# Altium schematic symbol library common components.SchLib: 8 symbols
Pins are listed as number, name and electrical type; pins without a type are passive.

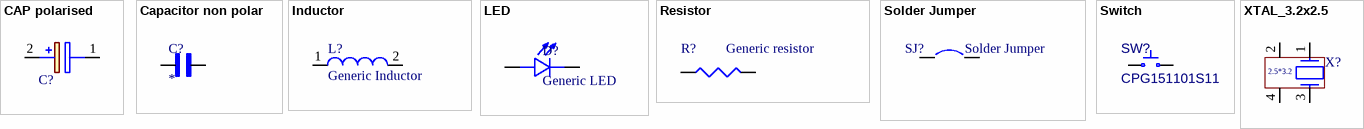
[diagram p0: symbols CAP polarised to XTAL_3.2x2.5]

## CAP polarised
designator C?, comment (SMD A–E)  (value not drawn)
This Polarized Tantalum Capacitor Library (SMD A–E Sizes) provides accurate schematic symbols and IPC-compliant PCB footprints for standard SMD tantalum capacitor case sizes A, B, C, D, and E.; Manufacturer_Name: AVX; Manufacturer_Part_Number: TCJ5477M016R0100E; Datasheet Link: https://datasheets.kyocera-avx.com/TCJ.pdf; Height: 4mm; Mouser Part Number: 581-TCJ5477M016R100E; Mouser Price/Stock: https://www.mouser.co.uk/ProductDetail/AVX/TCJ5477M016R0100E?qs=hWgE7mdIu5QV3CO1kSXQRw%3D%3D
footprint TANTALUM SMD C (SMD TIPO C 6.0x3.2x2.2)
footprint TANTALUM SMD D (SMD TIPO D 7.3x4.3x2.4)
footprint TANTALUM SMD E (SMD TIPO E  7.3x4.3x4.1)
footprint TAN-A
footprint TAN-B
pins: 1 -, 2 +

## Capacitor non polar
designator C?
This Non-Polarized Capacitor Design Library provides accurate schematic symbols and IPC-compliant PCB footprints for standard non-polarized capacitors, including MLCCs (ceramic capacitors) in common SMD sizes like 0402, 0603, 0805,1206 and 1210.; MF: Murata; MP: GJM1555C1HR10BB01J; SnapEDA_Link: https://www.snapeda.com/parts/GJM1555C1HR10BB01J/Murata/view-part/?ref=snap; Package: 1005 Taiyo Yuden; Value: *; Check_prices: https://www.snapeda.com/parts/GJM1555C1HR10BB01J/Murata/view-part/?ref=eda
footprint C0603
footprint C0805
footprint C0201 (Chip Capacitor, 2-Leads, Body 0.60x0.30mm, IPC High Density)
footprint C1206
footprint C1210
footprint C0402
pins: 1, 2

## Inductor
designator L?, comment Generic Inductor
SMD Inductor Generic; PartNumber: 744043152; Inductance: 1500 µH; DatasheetVersion: ver 6, Aug-2010; PackageReference: WE-TPC-4828-MH; PackageDescription: SMD Inductor, 2-Leads, Body 4.8 x 4.8 mm; ComponentLink1Description: Manufacturer URL; ComponentLink1URL: http://www.we-online.com; ComponentLink2Description: Datasheet; ComponentLink2URL: http://www.we-online.de/katalog/media/pdf/744043152.pdf
footprint 4030 inductor (Size: 4.0 mm × 4.0 mm × 3.0 mm (L × W × H))
footprint 5020 inductor (SMD / SMT Inductor (Coil), 2.2 - 47 H, 100 kHz, 0.71 - 2.76 A, 58 - 875 Ohm, 5 x 5 x 2 (LxWxH))
footprint 6045 (Package Size: 6.0 mm × 6.0 mm (L × W) / Height (H): 4.5 mm (maximum) / Mounting Type: Surface-mount (SMD) / Core Shape: Shielded, molded construction)
footprint 4.0 mm × 4.0 mm (AE433PZA Outgassing Compliant Power Inductor)
footprint 5.2 mm × 5.2 mm (AE486PYA Outgassing Compliant Power Inductor)
footprint 7.0 mm × 7.0 mm (AE528PMM Coilcraft CPS outgassing compliant power inductors)
footprint 13.5 mm * 12.6mm (TMPA1206SP-100MN-D Taitec 13.5x12.6x5.7mm Shielded Power Inductor)
footprint 4800S Murata (Murata 4800S Power Inductors Length: 12.20 mm ±0.30 mm (0.480 in ±0.012 in) / Width: 12.20 mm ±0.30 mm (0.480 in ±0.012 in))
footprint L0201 (Chip Inductor, 2-Leads, Body 0.60x0.30mm, IPC High Density)
footprint L0402
footprint L0603
footprint L0805
footprint L1206
footprint L1210
pins: 1, 2

## LED
designator D?, comment Generic LED
Generic LED SMD; MF: Osram; MP: LHN974 RED LED 1206; SnapEDA_Link: https://www.snapeda.com/parts/LHN974%20RED%20LED%201206/Osram/view-part/?ref=snap; Package: None; Value: *; Check_prices: https://www.snapeda.com/parts/LHN974%20RED%20LED%201206/Osram/view-part/?ref=eda
footprint 0603D-B (Blue LED  PKG=0603)
footprint 0603D-G (Green LED  PKG=0603)
footprint 0603D-R (Red LED  PKG=0603)
pins: 1 POS, 2 NEG

## Resistor
designator R?, comment Generic resistor
This Library provides a comprehensive set of schematic symbols and PCB footprints for standard resistor packages (e.g., 0402, 0603, 0805, 1206).
footprint R0201 (Chip Resistor, 2-Leads, Body 0.60x0.30mm, IPC High Density)
footprint R0402
footprint R0603
footprint R0805
footprint R1206
footprint R1210
pins: 1, 2

## Solder Jumper
designator SJ?
Published: 24-Mar-1999; Revision: July-2002: Re-released for DXP Platform.; Publisher: Altium Limited
footprint SB_0603 (Solder Jumper)
pins: 1, 2

## Switch
designator SW?, comment CPG151101S11
Manufacturer Part Number: CPG151101S11; Supplier 3: LCSC; Supplier Part Number 3: C41430893
footprint 5.2 mm × 5.2 mm SW (SWITCH TACTILE SPST-NO 0.05A  TL3342F260QG)
pins: 1, 2

## XTAL_3.2x2.5
designator X?, comment XTAL_4_PINS  (value not drawn)
This 2.5×3.2 mm SMD Oscillator Design Library provides precise schematic symbols and IPC-compliant PCB footprints for compact 2.5 mm × 3.2 mm crystal oscillators.; Internal_Part_Number: MCD-01364; Part_Type: Crystal_Osc; Manufacturer_Part_Number: NX2016SA 25MHz EXS00A-CS11321; Manufacturer: NDK; BMS_Part_Number: 9157044; Provided_By: SUBCO; ECCN_US: EAR99; ECCN_EU: NEC; Status: Released; Package: NX2016SA; ComponentLink1Description: Datasheet; ComponentLink1URL: http://tunmcdsvn.tun.st.com/Component_Datasheet_Library/Trunk/Crystal_Osc/NDK_NX2016SA 25MHz EXS00A-CS11321 (EXS10B-28187); Order_Code_Digikey: 644-1367
footprint XTAL_TSX-3225 (this 2.5×3.2 mm SMD Oscillator Design Library provides precise schematic symbols and IPC-compliant PCB footprints for compact 2.5 mm × 3.2 mm crystal oscillators.)
pins: 1, 2, 3, 4
text: 2.5*3.2